# Altium schematic symbol library kmilo17pet-LT_PMIC_LT.SchLib: 2252 symbols (part 5 of 124)
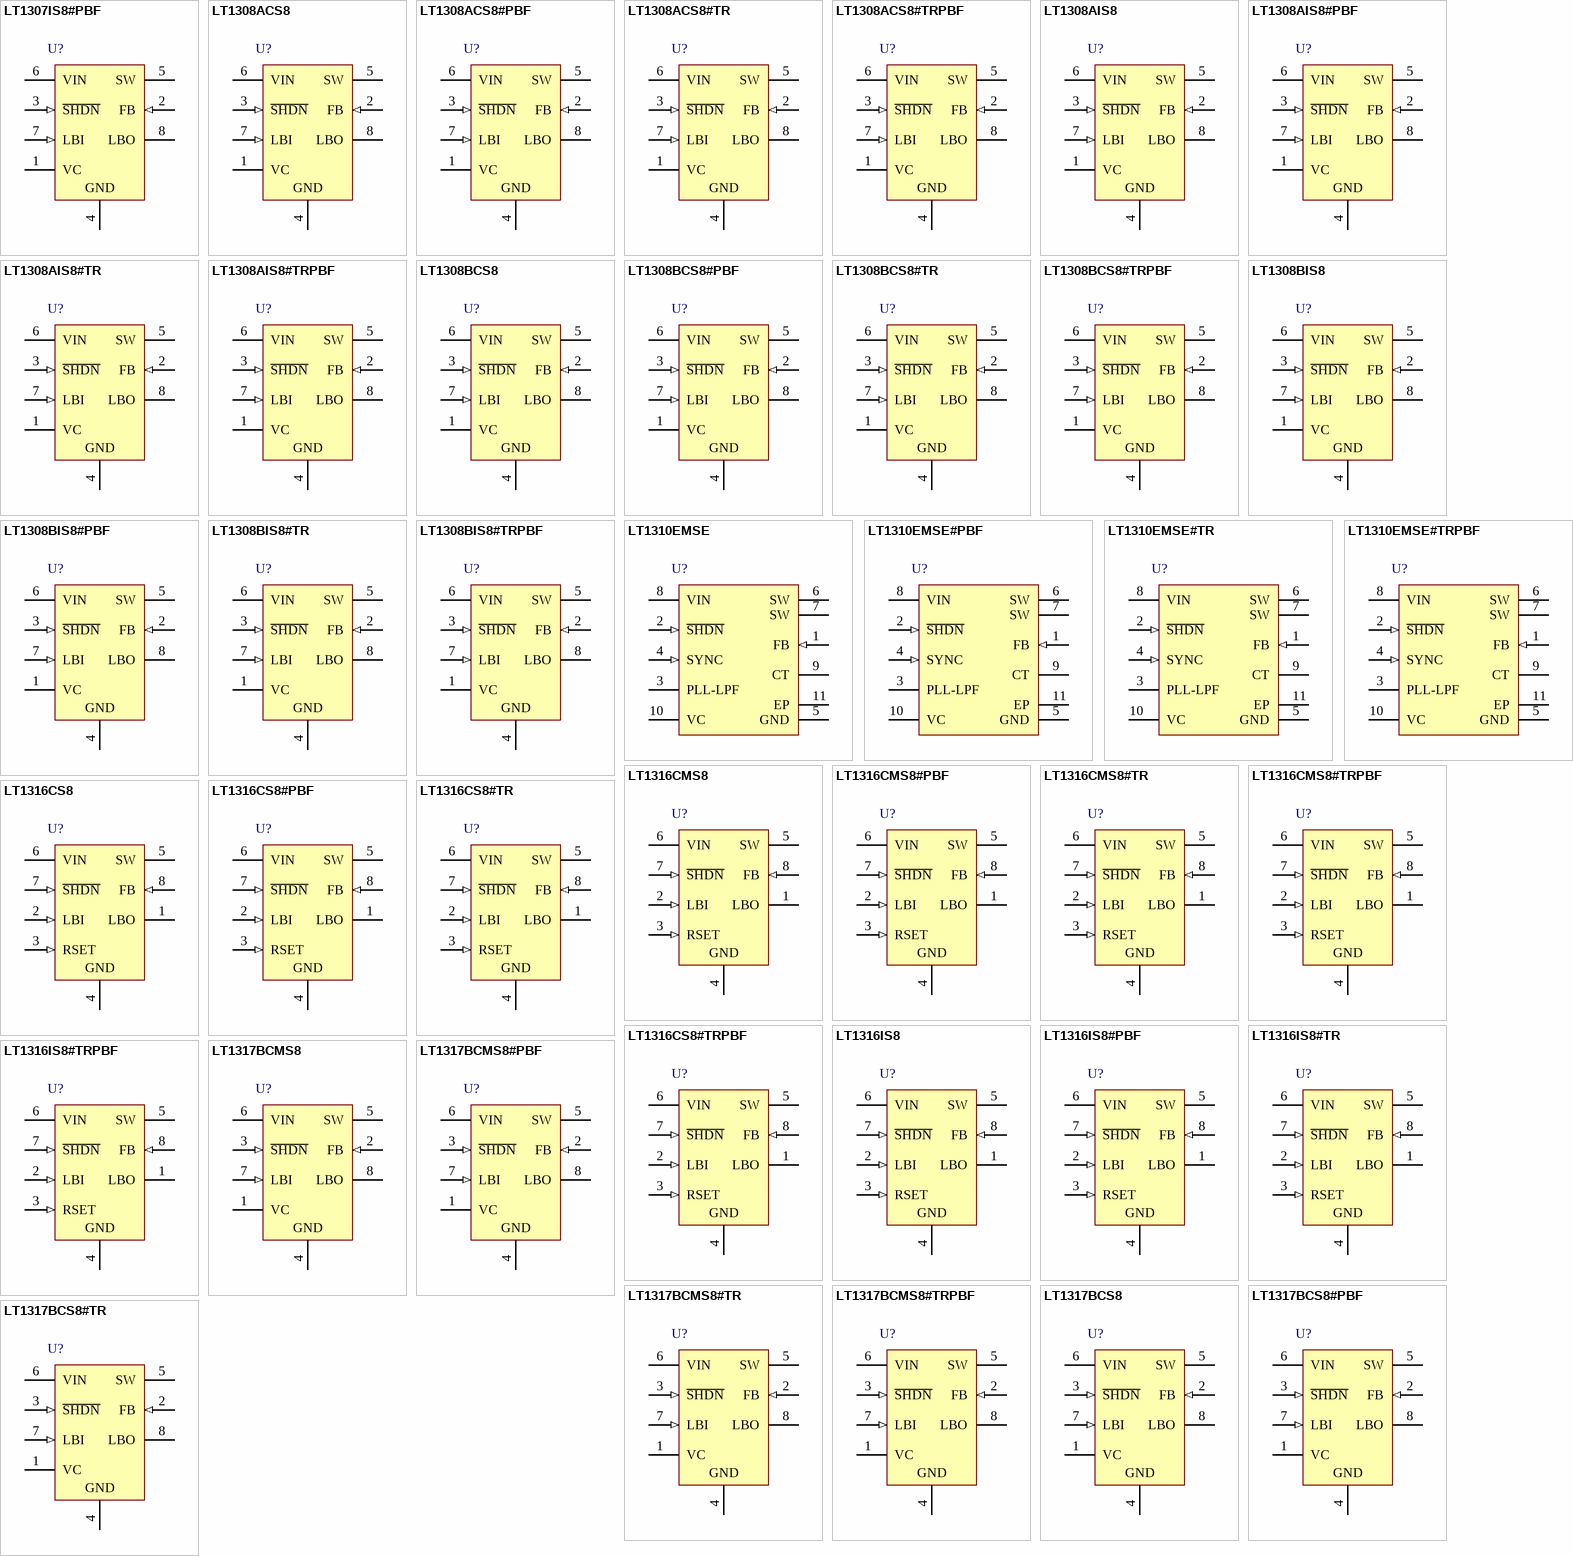
[diagram p75: symbols LT1307IS8#PBF to LT1317BCS8#TR]

## LT1308AIS8#TRPBF
designator U?
Single Cell High Current Micropower 600 kHz Boost DC/DC Converter, 8-pin SOIC (S8-8), -40 to 85 degC, Pb-Free, Tape and Reel; Manufacturer: Linear Technology; PartNumber: LT1308AIS8#TRPBF; Number of Outputs: 1; PackageReference: S8-8; PackageDescription: 8-Pin Plastic Small Outline (Narrow .150 Inch), Body 4.9 x 3.9 mm, Pitch 1.27 mm; Supplier 1: Digi-Key; Supplier Part Number 1: LT1308AIS8#TRPBF-ND; RoHS: TRUE
footprint LT-S8-8_N (SOIC, 8-Leads, Body 5x4mm, Pitch 1.27mm, IPC Medium Density)
footprint LT-S8-8_L (SOIC, 8-Leads, Body 5x4mm, Pitch 1.27mm, IPC High Density)
footprint LT-S8-8_M (SOIC, 8-Leads, Body 5x4mm, Pitch 1.27mm, IPC Low Density)
pins: 1 VC "Compensation Pin for Error Amplifier. Connect a series RC from this pin to ground. Typical values are 47kohm and 100pF. Minimize trace area at VC.", 2 FB (in) "Feedback Pin. Reference voltage is 1.22V. Connect resistive divider tap here. Minimize trace area at FB. Set VOUT according to: VOUT = 1.22V(1 + R1/R2).", 3 ~{SHDN} (in) "Shutdown. Ground this pin to turn off switcher. To enable, tie to 1V or more. S\H\D\N\ does not need to be at VIN to enable the device.", 4 GND (power) "Ground. Connect directly to local ground plane. Ground plane should enclose all components associated with the LT1308. PCB copper connected to these pins also functions as a heat sink. For the TSSOP package, connect all pins (See Datasheet)", 5 SW "Switch Pins. Connect inductor/diode here. Minimize trace area at these pins to keep EMI down. For the TSSOP package, connect all SW pins together at the package.", 6 VIN (power) "Supply Pins. Must have local bypass capacitor right at the pins, connected directly to ground. For the TSSOP package, connect both VIN pins together at the package.", 7 LBI (in) "Low-Battery Detector Input. 200mV reference. Voltage on LBI must stay between -100mV and 1V. Low-battery detector does not function with S\H\D\N\ pin grounded. Float LBI pin if not used.", 8 LBO (hiz) "Low-Battery Detector Output. Open collector, can sink 50uA. A 220kohm pull-up is recommended. LBO is high impedance when S\H\D\N\ is grounded"

## LT1308BCS8
designator U?
Single Cell High Current Micropower 600 kHz Boost DC/DC Converter, 8-pin SOIC (S8-8), 0 to 70 degC; Manufacturer: Linear Technology; PartNumber: LT1308BCS8; Number of Outputs: 1; PackageReference: S8-8; PackageDescription: 8-Pin Plastic Small Outline (Narrow .150 Inch), Body 4.9 x 3.9 mm, Pitch 1.27 mm; Supplier 1: Digi-Key; Supplier Part Number 1: LT1308BCS8-ND; RoHS: FALSE
footprint LT-S8-8_N (SOIC, 8-Leads, Body 5x4mm, Pitch 1.27mm, IPC Medium Density)
footprint LT-S8-8_L (SOIC, 8-Leads, Body 5x4mm, Pitch 1.27mm, IPC High Density)
footprint LT-S8-8_M (SOIC, 8-Leads, Body 5x4mm, Pitch 1.27mm, IPC Low Density)
pins: 1 VC "Compensation Pin for Error Amplifier. Connect a series RC from this pin to ground. Typical values are 47kohm and 100pF. Minimize trace area at VC.", 2 FB (in) "Feedback Pin. Reference voltage is 1.22V. Connect resistive divider tap here. Minimize trace area at FB. Set VOUT according to: VOUT = 1.22V(1 + R1/R2).", 3 ~{SHDN} (in) "Shutdown. Ground this pin to turn off switcher. To enable, tie to 1V or more. S\H\D\N\ does not need to be at VIN to enable the device.", 4 GND (power) "Ground. Connect directly to local ground plane. Ground plane should enclose all components associated with the LT1308. PCB copper connected to these pins also functions as a heat sink. For the TSSOP package, connect all pins (See Datasheet)", 5 SW "Switch Pins. Connect inductor/diode here. Minimize trace area at these pins to keep EMI down. For the TSSOP package, connect all SW pins together at the package.", 6 VIN (power) "Supply Pins. Must have local bypass capacitor right at the pins, connected directly to ground. For the TSSOP package, connect both VIN pins together at the package.", 7 LBI (in) "Low-Battery Detector Input. 200mV reference. Voltage on LBI must stay between -100mV and 1V. Low-battery detector does not function with S\H\D\N\ pin grounded. Float LBI pin if not used.", 8 LBO (hiz) "Low-Battery Detector Output. Open collector, can sink 50uA. A 220kohm pull-up is recommended. LBO is high impedance when S\H\D\N\ is grounded"

## LT1308BCS8#PBF
designator U?
Single Cell High Current Micropower 600 kHz Boost DC/DC Converter, 8-pin SOIC (S8-8), 0 to 70 degC, Pb-Free; Manufacturer: Linear Technology; PartNumber: LT1308BCS8#PBF; Number of Outputs: 1; PackageReference: S8-8; PackageDescription: 8-Pin Plastic Small Outline (Narrow .150 Inch), Body 4.9 x 3.9 mm, Pitch 1.27 mm; Supplier 1: Digi-Key; Supplier Part Number 1: LT1308BCS8#PBF-ND; RoHS: TRUE
footprint LT-S8-8_N (SOIC, 8-Leads, Body 5x4mm, Pitch 1.27mm, IPC Medium Density)
footprint LT-S8-8_L (SOIC, 8-Leads, Body 5x4mm, Pitch 1.27mm, IPC High Density)
footprint LT-S8-8_M (SOIC, 8-Leads, Body 5x4mm, Pitch 1.27mm, IPC Low Density)
pins: 1 VC "Compensation Pin for Error Amplifier. Connect a series RC from this pin to ground. Typical values are 47kohm and 100pF. Minimize trace area at VC.", 2 FB (in) "Feedback Pin. Reference voltage is 1.22V. Connect resistive divider tap here. Minimize trace area at FB. Set VOUT according to: VOUT = 1.22V(1 + R1/R2).", 3 ~{SHDN} (in) "Shutdown. Ground this pin to turn off switcher. To enable, tie to 1V or more. S\H\D\N\ does not need to be at VIN to enable the device.", 4 GND (power) "Ground. Connect directly to local ground plane. Ground plane should enclose all components associated with the LT1308. PCB copper connected to these pins also functions as a heat sink. For the TSSOP package, connect all pins (See Datasheet)", 5 SW "Switch Pins. Connect inductor/diode here. Minimize trace area at these pins to keep EMI down. For the TSSOP package, connect all SW pins together at the package.", 6 VIN (power) "Supply Pins. Must have local bypass capacitor right at the pins, connected directly to ground. For the TSSOP package, connect both VIN pins together at the package.", 7 LBI (in) "Low-Battery Detector Input. 200mV reference. Voltage on LBI must stay between -100mV and 1V. Low-battery detector does not function with S\H\D\N\ pin grounded. Float LBI pin if not used.", 8 LBO (hiz) "Low-Battery Detector Output. Open collector, can sink 50uA. A 220kohm pull-up is recommended. LBO is high impedance when S\H\D\N\ is grounded"

## LT1308BCS8#TR
designator U?
Single Cell High Current Micropower 600 kHz Boost DC/DC Converter, 8-pin SOIC (S8-8), 0 to 70 degC, Tape and Reel; Manufacturer: Linear Technology; PartNumber: LT1308BCS8#TR; Number of Outputs: 1; PackageReference: S8-8; PackageDescription: 8-Pin Plastic Small Outline (Narrow .150 Inch), Body 4.9 x 3.9 mm, Pitch 1.27 mm; RoHS: FALSE
footprint LT-S8-8_N (SOIC, 8-Leads, Body 5x4mm, Pitch 1.27mm, IPC Medium Density)
footprint LT-S8-8_L (SOIC, 8-Leads, Body 5x4mm, Pitch 1.27mm, IPC High Density)
footprint LT-S8-8_M (SOIC, 8-Leads, Body 5x4mm, Pitch 1.27mm, IPC Low Density)
pins: 1 VC "Compensation Pin for Error Amplifier. Connect a series RC from this pin to ground. Typical values are 47kohm and 100pF. Minimize trace area at VC.", 2 FB (in) "Feedback Pin. Reference voltage is 1.22V. Connect resistive divider tap here. Minimize trace area at FB. Set VOUT according to: VOUT = 1.22V(1 + R1/R2).", 3 ~{SHDN} (in) "Shutdown. Ground this pin to turn off switcher. To enable, tie to 1V or more. S\H\D\N\ does not need to be at VIN to enable the device.", 4 GND (power) "Ground. Connect directly to local ground plane. Ground plane should enclose all components associated with the LT1308. PCB copper connected to these pins also functions as a heat sink. For the TSSOP package, connect all pins (See Datasheet)", 5 SW "Switch Pins. Connect inductor/diode here. Minimize trace area at these pins to keep EMI down. For the TSSOP package, connect all SW pins together at the package.", 6 VIN (power) "Supply Pins. Must have local bypass capacitor right at the pins, connected directly to ground. For the TSSOP package, connect both VIN pins together at the package.", 7 LBI (in) "Low-Battery Detector Input. 200mV reference. Voltage on LBI must stay between -100mV and 1V. Low-battery detector does not function with S\H\D\N\ pin grounded. Float LBI pin if not used.", 8 LBO (hiz) "Low-Battery Detector Output. Open collector, can sink 50uA. A 220kohm pull-up is recommended. LBO is high impedance when S\H\D\N\ is grounded"

## LT1308BCS8#TRPBF
designator U?
Single Cell High Current Micropower 600 kHz Boost DC/DC Converter, 8-pin SOIC (S8-8), 0 to 70 degC, Pb-Free, Tape and Reel; Manufacturer: Linear Technology; PartNumber: LT1308BCS8#TRPBF; Number of Outputs: 1; PackageReference: S8-8; PackageDescription: 8-Pin Plastic Small Outline (Narrow .150 Inch), Body 4.9 x 3.9 mm, Pitch 1.27 mm; Supplier 1: Digi-Key; Supplier Part Number 1: LT1308BCS8#TRPBF-ND; RoHS: TRUE
footprint LT-S8-8_N (SOIC, 8-Leads, Body 5x4mm, Pitch 1.27mm, IPC Medium Density)
footprint LT-S8-8_L (SOIC, 8-Leads, Body 5x4mm, Pitch 1.27mm, IPC High Density)
footprint LT-S8-8_M (SOIC, 8-Leads, Body 5x4mm, Pitch 1.27mm, IPC Low Density)
pins: 1 VC "Compensation Pin for Error Amplifier. Connect a series RC from this pin to ground. Typical values are 47kohm and 100pF. Minimize trace area at VC.", 2 FB (in) "Feedback Pin. Reference voltage is 1.22V. Connect resistive divider tap here. Minimize trace area at FB. Set VOUT according to: VOUT = 1.22V(1 + R1/R2).", 3 ~{SHDN} (in) "Shutdown. Ground this pin to turn off switcher. To enable, tie to 1V or more. S\H\D\N\ does not need to be at VIN to enable the device.", 4 GND (power) "Ground. Connect directly to local ground plane. Ground plane should enclose all components associated with the LT1308. PCB copper connected to these pins also functions as a heat sink. For the TSSOP package, connect all pins (See Datasheet)", 5 SW "Switch Pins. Connect inductor/diode here. Minimize trace area at these pins to keep EMI down. For the TSSOP package, connect all SW pins together at the package.", 6 VIN (power) "Supply Pins. Must have local bypass capacitor right at the pins, connected directly to ground. For the TSSOP package, connect both VIN pins together at the package.", 7 LBI (in) "Low-Battery Detector Input. 200mV reference. Voltage on LBI must stay between -100mV and 1V. Low-battery detector does not function with S\H\D\N\ pin grounded. Float LBI pin if not used.", 8 LBO (hiz) "Low-Battery Detector Output. Open collector, can sink 50uA. A 220kohm pull-up is recommended. LBO is high impedance when S\H\D\N\ is grounded"

## LT1308BIS8
designator U?
Single Cell High Current Micropower 600 kHz Boost DC/DC Converter, 8-pin SOIC (S8-8), -40 to 85 degC; Manufacturer: Linear Technology; PartNumber: LT1308BIS8; Number of Outputs: 1; PackageReference: S8-8; PackageDescription: 8-Pin Plastic Small Outline (Narrow .150 Inch), Body 4.9 x 3.9 mm, Pitch 1.27 mm; Supplier 1: Digi-Key; Supplier Part Number 1: LT1308BIS8-ND; RoHS: FALSE
footprint LT-S8-8_N (SOIC, 8-Leads, Body 5x4mm, Pitch 1.27mm, IPC Medium Density)
footprint LT-S8-8_L (SOIC, 8-Leads, Body 5x4mm, Pitch 1.27mm, IPC High Density)
footprint LT-S8-8_M (SOIC, 8-Leads, Body 5x4mm, Pitch 1.27mm, IPC Low Density)
pins: 1 VC "Compensation Pin for Error Amplifier. Connect a series RC from this pin to ground. Typical values are 47kohm and 100pF. Minimize trace area at VC.", 2 FB (in) "Feedback Pin. Reference voltage is 1.22V. Connect resistive divider tap here. Minimize trace area at FB. Set VOUT according to: VOUT = 1.22V(1 + R1/R2).", 3 ~{SHDN} (in) "Shutdown. Ground this pin to turn off switcher. To enable, tie to 1V or more. S\H\D\N\ does not need to be at VIN to enable the device.", 4 GND (power) "Ground. Connect directly to local ground plane. Ground plane should enclose all components associated with the LT1308. PCB copper connected to these pins also functions as a heat sink. For the TSSOP package, connect all pins (See Datasheet)", 5 SW "Switch Pins. Connect inductor/diode here. Minimize trace area at these pins to keep EMI down. For the TSSOP package, connect all SW pins together at the package.", 6 VIN (power) "Supply Pins. Must have local bypass capacitor right at the pins, connected directly to ground. For the TSSOP package, connect both VIN pins together at the package.", 7 LBI (in) "Low-Battery Detector Input. 200mV reference. Voltage on LBI must stay between -100mV and 1V. Low-battery detector does not function with S\H\D\N\ pin grounded. Float LBI pin if not used.", 8 LBO (hiz) "Low-Battery Detector Output. Open collector, can sink 50uA. A 220kohm pull-up is recommended. LBO is high impedance when S\H\D\N\ is grounded"

## LT1308BIS8#PBF
designator U?
Single Cell High Current Micropower 600 kHz Boost DC/DC Converter, 8-pin SOIC (S8-8), -40 to 85 degC, Pb-Free; Manufacturer: Linear Technology; PartNumber: LT1308BIS8#PBF; Number of Outputs: 1; PackageReference: S8-8; PackageDescription: 8-Pin Plastic Small Outline (Narrow .150 Inch), Body 4.9 x 3.9 mm, Pitch 1.27 mm; Supplier 1: Digi-Key; Supplier Part Number 1: LT1308BIS8#PBF-ND; RoHS: TRUE
footprint LT-S8-8_N (SOIC, 8-Leads, Body 5x4mm, Pitch 1.27mm, IPC Medium Density)
footprint LT-S8-8_L (SOIC, 8-Leads, Body 5x4mm, Pitch 1.27mm, IPC High Density)
footprint LT-S8-8_M (SOIC, 8-Leads, Body 5x4mm, Pitch 1.27mm, IPC Low Density)
pins: 1 VC "Compensation Pin for Error Amplifier. Connect a series RC from this pin to ground. Typical values are 47kohm and 100pF. Minimize trace area at VC.", 2 FB (in) "Feedback Pin. Reference voltage is 1.22V. Connect resistive divider tap here. Minimize trace area at FB. Set VOUT according to: VOUT = 1.22V(1 + R1/R2).", 3 ~{SHDN} (in) "Shutdown. Ground this pin to turn off switcher. To enable, tie to 1V or more. S\H\D\N\ does not need to be at VIN to enable the device.", 4 GND (power) "Ground. Connect directly to local ground plane. Ground plane should enclose all components associated with the LT1308. PCB copper connected to these pins also functions as a heat sink. For the TSSOP package, connect all pins (See Datasheet)", 5 SW "Switch Pins. Connect inductor/diode here. Minimize trace area at these pins to keep EMI down. For the TSSOP package, connect all SW pins together at the package.", 6 VIN (power) "Supply Pins. Must have local bypass capacitor right at the pins, connected directly to ground. For the TSSOP package, connect both VIN pins together at the package.", 7 LBI (in) "Low-Battery Detector Input. 200mV reference. Voltage on LBI must stay between -100mV and 1V. Low-battery detector does not function with S\H\D\N\ pin grounded. Float LBI pin if not used.", 8 LBO (hiz) "Low-Battery Detector Output. Open collector, can sink 50uA. A 220kohm pull-up is recommended. LBO is high impedance when S\H\D\N\ is grounded"

## LT1308BIS8#TR
designator U?
Single Cell High Current Micropower 600 kHz Boost DC/DC Converter, 8-pin SOIC (S8-8), -40 to 85 degC, Tape and Reel; Manufacturer: Linear Technology; PartNumber: LT1308BIS8#TR; Number of Outputs: 1; PackageReference: S8-8; PackageDescription: 8-Pin Plastic Small Outline (Narrow .150 Inch), Body 4.9 x 3.9 mm, Pitch 1.27 mm; Supplier 1: Digi-Key; Supplier Part Number 1: LT1308BIS8#TR-ND; RoHS: FALSE
footprint LT-S8-8_N (SOIC, 8-Leads, Body 5x4mm, Pitch 1.27mm, IPC Medium Density)
footprint LT-S8-8_L (SOIC, 8-Leads, Body 5x4mm, Pitch 1.27mm, IPC High Density)
footprint LT-S8-8_M (SOIC, 8-Leads, Body 5x4mm, Pitch 1.27mm, IPC Low Density)
pins: 1 VC "Compensation Pin for Error Amplifier. Connect a series RC from this pin to ground. Typical values are 47kohm and 100pF. Minimize trace area at VC.", 2 FB (in) "Feedback Pin. Reference voltage is 1.22V. Connect resistive divider tap here. Minimize trace area at FB. Set VOUT according to: VOUT = 1.22V(1 + R1/R2).", 3 ~{SHDN} (in) "Shutdown. Ground this pin to turn off switcher. To enable, tie to 1V or more. S\H\D\N\ does not need to be at VIN to enable the device.", 4 GND (power) "Ground. Connect directly to local ground plane. Ground plane should enclose all components associated with the LT1308. PCB copper connected to these pins also functions as a heat sink. For the TSSOP package, connect all pins (See Datasheet)", 5 SW "Switch Pins. Connect inductor/diode here. Minimize trace area at these pins to keep EMI down. For the TSSOP package, connect all SW pins together at the package.", 6 VIN (power) "Supply Pins. Must have local bypass capacitor right at the pins, connected directly to ground. For the TSSOP package, connect both VIN pins together at the package.", 7 LBI (in) "Low-Battery Detector Input. 200mV reference. Voltage on LBI must stay between -100mV and 1V. Low-battery detector does not function with S\H\D\N\ pin grounded. Float LBI pin if not used.", 8 LBO (hiz) "Low-Battery Detector Output. Open collector, can sink 50uA. A 220kohm pull-up is recommended. LBO is high impedance when S\H\D\N\ is grounded"

## LT1308BIS8#TRPBF
designator U?
Single Cell High Current Micropower 600 kHz Boost DC/DC Converter, 8-pin SOIC (S8-8), -40 to 85 degC, Pb-Free, Tape and Reel; Manufacturer: Linear Technology; PartNumber: LT1308BIS8#TRPBF; Number of Outputs: 1; PackageReference: S8-8; PackageDescription: 8-Pin Plastic Small Outline (Narrow .150 Inch), Body 4.9 x 3.9 mm, Pitch 1.27 mm; Supplier 1: Digi-Key; Supplier Part Number 1: LT1308BIS8#TRPBF-ND; RoHS: TRUE
footprint LT-S8-8_N (SOIC, 8-Leads, Body 5x4mm, Pitch 1.27mm, IPC Medium Density)
footprint LT-S8-8_L (SOIC, 8-Leads, Body 5x4mm, Pitch 1.27mm, IPC High Density)
footprint LT-S8-8_M (SOIC, 8-Leads, Body 5x4mm, Pitch 1.27mm, IPC Low Density)
pins: 1 VC "Compensation Pin for Error Amplifier. Connect a series RC from this pin to ground. Typical values are 47kohm and 100pF. Minimize trace area at VC.", 2 FB (in) "Feedback Pin. Reference voltage is 1.22V. Connect resistive divider tap here. Minimize trace area at FB. Set VOUT according to: VOUT = 1.22V(1 + R1/R2).", 3 ~{SHDN} (in) "Shutdown. Ground this pin to turn off switcher. To enable, tie to 1V or more. S\H\D\N\ does not need to be at VIN to enable the device.", 4 GND (power) "Ground. Connect directly to local ground plane. Ground plane should enclose all components associated with the LT1308. PCB copper connected to these pins also functions as a heat sink. For the TSSOP package, connect all pins (See Datasheet)", 5 SW "Switch Pins. Connect inductor/diode here. Minimize trace area at these pins to keep EMI down. For the TSSOP package, connect all SW pins together at the package.", 6 VIN (power) "Supply Pins. Must have local bypass capacitor right at the pins, connected directly to ground. For the TSSOP package, connect both VIN pins together at the package.", 7 LBI (in) "Low-Battery Detector Input. 200mV reference. Voltage on LBI must stay between -100mV and 1V. Low-battery detector does not function with S\H\D\N\ pin grounded. Float LBI pin if not used.", 8 LBO (hiz) "Low-Battery Detector Output. Open collector, can sink 50uA. A 220kohm pull-up is recommended. LBO is high impedance when S\H\D\N\ is grounded"

## LT1310EMSE
designator U?
1.5 A Boost DC/DC Converter with Phase-Locked Loop, 10-pin SOP (MSE-10-EDP), -40 to 85 degC; Manufacturer: Linear Technology; PartNumber: LT1310EMSE; Number of Outputs: 1; PackageReference: MSE-10; PackageDescription: 10-Pin Plastic MSOP, Exposed Die Pad, Body 3 x 3 mm, Pitch 0.5 mm; Supplier 1: Digi-Key; Supplier Part Number 1: LT1310EMSE-ND; RoHS: FALSE
footprint LT-MSE-10-EDP-2060x1830TP_N (SOP, 10-Leads, Body 3.1x3.1mm, Pitch 0.5mm, Thermal Pad 2.17x1.94mm, IPC Medium Density)
footprint LT-MSE-10-EDP-2060x1830TP_L (SOP, 10-Leads, Body 3.1x3.1mm, Pitch 0.5mm, Thermal Pad 2.17x1.94mm, IPC High Density)
footprint LT-MSE-10-EDP-2060x1830TP_M (SOP, 10-Leads, Body 3.1x3.1mm, Pitch 0.5mm, Thermal Pad 2.17x1.94mm, IPC Low Density)
pins: 1 FB (in) "Feedback Pin for Error Amplifier. Connect the resistor divider here to set output voltage", 2 ~{SHDN} (in) "Shutdown Pin. For active mode, tie this pin to a voltage between 2.4V and 18V. To disable the part and go into low current mode, pull this pin below 0.4V.", 3 PLL-LPF "Phase Locked-Loop Filter Pin. This is the output of the phase detector and also the input to the voltage controlled oscillator (VCO). Connect an RC filter here. Typically, R = 3k and C = 1500pF. The voltage range at the (See Datasheet)", 4 SYNC (in) "Frequency Synchronization Pin. Inject the external synchronizing signal here. The phase detector is edge triggered and when locked the rising edge of the sync signal will be aligned with the turn-on of the power transistor. (See Datasheet)", 5 GND (power) "Ground. Tie both Pin 5 and the exposed pad directly to local ground plane. The ground metal to the exposed pad should be wide for better heat dissipation. Multiple vias (local ground plane ground backplane) placed close to (See Datasheet)", 6 SW (power) "Switch Pin. Must tie Pin 6 to Pin 7. Connect inductor/diode here. Minimize trace area at this pin to keep EMI down.", 7 SW (power) "Switch Pin. Must tie Pin 6 to Pin 7. Connect inductor/diode here. Minimize trace area at this pin to keep EMI down.", 8 VIN (power) "Supply Pin. Must be bypassed as close as possible to the pin.", 9 CT "Timing Capacitor Pin for VCO. Place the timing capacitor from this pin to ground to set the frequency range for the oscillator. Minimize trace at this pin to reduce stray capacitance.", 10 VC "Compensation Pin for Error Amplifier. Tie an RC network here to compensate the voltage feedback loop.", 11 EP (power) "Ground. Tie both Pin 5 and the exposed pad directly to local ground plane. The ground metal to the exposed pad should be wide for better heat dissipation. Multiple vias (local ground plane ground backplane) placed close to (See Datasheet)"

## LT1310EMSE#PBF
designator U?
1.5 A Boost DC/DC Converter with Phase-Locked Loop, 10-pin SOP (MSE-10-EDP), -40 to 85 degC, Pb-Free; Manufacturer: Linear Technology; PartNumber: LT1310EMSE#PBF; Number of Outputs: 1; PackageReference: MSE-10; PackageDescription: 10-Pin Plastic MSOP, Exposed Die Pad, Body 3 x 3 mm, Pitch 0.5 mm; Supplier 1: Digi-Key; Supplier Part Number 1: LT1310EMSE#PBF-ND; RoHS: TRUE
footprint LT-MSE-10-EDP-2060x1830TP_N (SOP, 10-Leads, Body 3.1x3.1mm, Pitch 0.5mm, Thermal Pad 2.17x1.94mm, IPC Medium Density)
footprint LT-MSE-10-EDP-2060x1830TP_L (SOP, 10-Leads, Body 3.1x3.1mm, Pitch 0.5mm, Thermal Pad 2.17x1.94mm, IPC High Density)
footprint LT-MSE-10-EDP-2060x1830TP_M (SOP, 10-Leads, Body 3.1x3.1mm, Pitch 0.5mm, Thermal Pad 2.17x1.94mm, IPC Low Density)
pins: 1 FB (in) "Feedback Pin for Error Amplifier. Connect the resistor divider here to set output voltage", 2 ~{SHDN} (in) "Shutdown Pin. For active mode, tie this pin to a voltage between 2.4V and 18V. To disable the part and go into low current mode, pull this pin below 0.4V.", 3 PLL-LPF "Phase Locked-Loop Filter Pin. This is the output of the phase detector and also the input to the voltage controlled oscillator (VCO). Connect an RC filter here. Typically, R = 3k and C = 1500pF. The voltage range at the (See Datasheet)", 4 SYNC (in) "Frequency Synchronization Pin. Inject the external synchronizing signal here. The phase detector is edge triggered and when locked the rising edge of the sync signal will be aligned with the turn-on of the power transistor. (See Datasheet)", 5 GND (power) "Ground. Tie both Pin 5 and the exposed pad directly to local ground plane. The ground metal to the exposed pad should be wide for better heat dissipation. Multiple vias (local ground plane ground backplane) placed close to (See Datasheet)", 6 SW (power) "Switch Pin. Must tie Pin 6 to Pin 7. Connect inductor/diode here. Minimize trace area at this pin to keep EMI down.", 7 SW (power) "Switch Pin. Must tie Pin 6 to Pin 7. Connect inductor/diode here. Minimize trace area at this pin to keep EMI down.", 8 VIN (power) "Supply Pin. Must be bypassed as close as possible to the pin.", 9 CT "Timing Capacitor Pin for VCO. Place the timing capacitor from this pin to ground to set the frequency range for the oscillator. Minimize trace at this pin to reduce stray capacitance.", 10 VC "Compensation Pin for Error Amplifier. Tie an RC network here to compensate the voltage feedback loop.", 11 EP (power) "Ground. Tie both Pin 5 and the exposed pad directly to local ground plane. The ground metal to the exposed pad should be wide for better heat dissipation. Multiple vias (local ground plane ground backplane) placed close to (See Datasheet)"

## LT1310EMSE#TR
designator U?
1.5 A Boost DC/DC Converter with Phase-Locked Loop, 10-pin SOP (MSE-10-EDP), -40 to 85 degC, Tape and Reel; Manufacturer: Linear Technology; PartNumber: LT1310EMSE#TR; Number of Outputs: 1; PackageReference: MSE-10; PackageDescription: 10-Pin Plastic MSOP, Exposed Die Pad, Body 3 x 3 mm, Pitch 0.5 mm; Supplier 1: Digi-Key; Supplier Part Number 1: LT1310EMSETR-ND; RoHS: FALSE
footprint LT-MSE-10-EDP-2060x1830TP_N (SOP, 10-Leads, Body 3.1x3.1mm, Pitch 0.5mm, Thermal Pad 2.17x1.94mm, IPC Medium Density)
footprint LT-MSE-10-EDP-2060x1830TP_L (SOP, 10-Leads, Body 3.1x3.1mm, Pitch 0.5mm, Thermal Pad 2.17x1.94mm, IPC High Density)
footprint LT-MSE-10-EDP-2060x1830TP_M (SOP, 10-Leads, Body 3.1x3.1mm, Pitch 0.5mm, Thermal Pad 2.17x1.94mm, IPC Low Density)
pins: 1 FB (in) "Feedback Pin for Error Amplifier. Connect the resistor divider here to set output voltage", 2 ~{SHDN} (in) "Shutdown Pin. For active mode, tie this pin to a voltage between 2.4V and 18V. To disable the part and go into low current mode, pull this pin below 0.4V.", 3 PLL-LPF "Phase Locked-Loop Filter Pin. This is the output of the phase detector and also the input to the voltage controlled oscillator (VCO). Connect an RC filter here. Typically, R = 3k and C = 1500pF. The voltage range at the (See Datasheet)", 4 SYNC (in) "Frequency Synchronization Pin. Inject the external synchronizing signal here. The phase detector is edge triggered and when locked the rising edge of the sync signal will be aligned with the turn-on of the power transistor. (See Datasheet)", 5 GND (power) "Ground. Tie both Pin 5 and the exposed pad directly to local ground plane. The ground metal to the exposed pad should be wide for better heat dissipation. Multiple vias (local ground plane ground backplane) placed close to (See Datasheet)", 6 SW (power) "Switch Pin. Must tie Pin 6 to Pin 7. Connect inductor/diode here. Minimize trace area at this pin to keep EMI down.", 7 SW (power) "Switch Pin. Must tie Pin 6 to Pin 7. Connect inductor/diode here. Minimize trace area at this pin to keep EMI down.", 8 VIN (power) "Supply Pin. Must be bypassed as close as possible to the pin.", 9 CT "Timing Capacitor Pin for VCO. Place the timing capacitor from this pin to ground to set the frequency range for the oscillator. Minimize trace at this pin to reduce stray capacitance.", 10 VC "Compensation Pin for Error Amplifier. Tie an RC network here to compensate the voltage feedback loop.", 11 EP (power) "Ground. Tie both Pin 5 and the exposed pad directly to local ground plane. The ground metal to the exposed pad should be wide for better heat dissipation. Multiple vias (local ground plane ground backplane) placed close to (See Datasheet)"

## LT1310EMSE#TRPBF
designator U?
1.5 A Boost DC/DC Converter with Phase-Locked Loop, 10-pin SOP (MSE-10-EDP), -40 to 85 degC, Pb-Free, Tape and Reel; Manufacturer: Linear Technology; PartNumber: LT1310EMSE#TRPBF; Number of Outputs: 1; PackageReference: MSE-10; PackageDescription: 10-Pin Plastic MSOP, Exposed Die Pad, Body 3 x 3 mm, Pitch 0.5 mm; Supplier 1: Digi-Key; Supplier Part Number 1: LT1310EMSE#TRPBF-ND; RoHS: TRUE
footprint LT-MSE-10-EDP-2060x1830TP_N (SOP, 10-Leads, Body 3.1x3.1mm, Pitch 0.5mm, Thermal Pad 2.17x1.94mm, IPC Medium Density)
footprint LT-MSE-10-EDP-2060x1830TP_L (SOP, 10-Leads, Body 3.1x3.1mm, Pitch 0.5mm, Thermal Pad 2.17x1.94mm, IPC High Density)
footprint LT-MSE-10-EDP-2060x1830TP_M (SOP, 10-Leads, Body 3.1x3.1mm, Pitch 0.5mm, Thermal Pad 2.17x1.94mm, IPC Low Density)
pins: 1 FB (in) "Feedback Pin for Error Amplifier. Connect the resistor divider here to set output voltage", 2 ~{SHDN} (in) "Shutdown Pin. For active mode, tie this pin to a voltage between 2.4V and 18V. To disable the part and go into low current mode, pull this pin below 0.4V.", 3 PLL-LPF "Phase Locked-Loop Filter Pin. This is the output of the phase detector and also the input to the voltage controlled oscillator (VCO). Connect an RC filter here. Typically, R = 3k and C = 1500pF. The voltage range at the (See Datasheet)", 4 SYNC (in) "Frequency Synchronization Pin. Inject the external synchronizing signal here. The phase detector is edge triggered and when locked the rising edge of the sync signal will be aligned with the turn-on of the power transistor. (See Datasheet)", 5 GND (power) "Ground. Tie both Pin 5 and the exposed pad directly to local ground plane. The ground metal to the exposed pad should be wide for better heat dissipation. Multiple vias (local ground plane ground backplane) placed close to (See Datasheet)", 6 SW (power) "Switch Pin. Must tie Pin 6 to Pin 7. Connect inductor/diode here. Minimize trace area at this pin to keep EMI down.", 7 SW (power) "Switch Pin. Must tie Pin 6 to Pin 7. Connect inductor/diode here. Minimize trace area at this pin to keep EMI down.", 8 VIN (power) "Supply Pin. Must be bypassed as close as possible to the pin.", 9 CT "Timing Capacitor Pin for VCO. Place the timing capacitor from this pin to ground to set the frequency range for the oscillator. Minimize trace at this pin to reduce stray capacitance.", 10 VC "Compensation Pin for Error Amplifier. Tie an RC network here to compensate the voltage feedback loop.", 11 EP (power) "Ground. Tie both Pin 5 and the exposed pad directly to local ground plane. The ground metal to the exposed pad should be wide for better heat dissipation. Multiple vias (local ground plane ground backplane) placed close to (See Datasheet)"

## LT1316CMS8
designator U?
Micropower DC/DC Converter with Programmable Peak Current Limit, 8-pin SOP (MS8-8), 0 to 70 degC; Manufacturer: Linear Technology; PartNumber: LT1316CMS8; Number of Outputs: 1; PackageReference: MS8; PackageDescription: 8-Pin Plastic MSOP, Body 3 x 3 mm, Pitch 0.65 mm; Supplier 1: Digi-Key; Supplier Part Number 1: LT1316CMS8-ND; RoHS: FALSE
footprint LT-MS8_N (SOP, 8-Leads, Body 3.1x3.1mm, Pitch 0.65mm, IPC Medium Density)
footprint LT-MS8_L (SOP, 8-Leads, Body 3.1x3.1mm, Pitch 0.65mm, IPC High Density)
footprint LT-MS8_M (SOP, 8-Leads, Body 3.1x3.1mm, Pitch 0.65mm, IPC Low Density)
pins: 1 LBO (oc) "Low-Battery Detector Output. Open collector can sink up to 500uA. Low-battery detector remains active in shutdown mode.", 2 LBI (in) "Low-Battery Detector Input. When voltage at this pin drops below 1.17V, LBO goes low.", 3 RSET (in) "A resistor between RSET and GND programs peak switch current. The resistor value should be between 3k and 150k. Do not float or short to ground. This is a high impedance node. Keep traces at this pin as short as possible. Do (See Datasheet)", 4 GND (power) "Ground. Connect directly to ground plane.", 5 SW (power) "Collector of NPN Power Transistor. Keep traces at this pin as short as possible.", 6 VIN (power) "Input Supply. Must be bypassed close to the pin.", 7 ~{SHDN} (in) "Shutdown. Ground this pin to place the part in shutdown mode (only the low-battery detector remains active). Tie to a voltage between 1.4V and 6V to enable the device. S\H\D\N\ pin is logic level and need only meet the logic (See Datasheet)", 8 FB (in) "Feedback Pin. Reference voltage is 1.23V. Connect resistive divider tap here. Minimize trace area at FB. Set VOUT according to: VOUT = 1.23V(1 + R1/R2)."

## LT1316CMS8#PBF
designator U?
Micropower DC/DC Converter with Programmable Peak Current Limit, 8-pin SOP (MS8-8), 0 to 70 degC, Pb-Free; Manufacturer: Linear Technology; PartNumber: LT1316CMS8#PBF; Number of Outputs: 1; PackageReference: MS8; PackageDescription: 8-Pin Plastic MSOP, Body 3 x 3 mm, Pitch 0.65 mm; Supplier 1: Digi-Key; Supplier Part Number 1: LT1316CMS8#PBF-ND; RoHS: TRUE
footprint LT-MS8_N (SOP, 8-Leads, Body 3.1x3.1mm, Pitch 0.65mm, IPC Medium Density)
footprint LT-MS8_L (SOP, 8-Leads, Body 3.1x3.1mm, Pitch 0.65mm, IPC High Density)
footprint LT-MS8_M (SOP, 8-Leads, Body 3.1x3.1mm, Pitch 0.65mm, IPC Low Density)
pins: 1 LBO (oc) "Low-Battery Detector Output. Open collector can sink up to 500uA. Low-battery detector remains active in shutdown mode.", 2 LBI (in) "Low-Battery Detector Input. When voltage at this pin drops below 1.17V, LBO goes low.", 3 RSET (in) "A resistor between RSET and GND programs peak switch current. The resistor value should be between 3k and 150k. Do not float or short to ground. This is a high impedance node. Keep traces at this pin as short as possible. Do (See Datasheet)", 4 GND (power) "Ground. Connect directly to ground plane.", 5 SW (power) "Collector of NPN Power Transistor. Keep traces at this pin as short as possible.", 6 VIN (power) "Input Supply. Must be bypassed close to the pin.", 7 ~{SHDN} (in) "Shutdown. Ground this pin to place the part in shutdown mode (only the low-battery detector remains active). Tie to a voltage between 1.4V and 6V to enable the device. S\H\D\N\ pin is logic level and need only meet the logic (See Datasheet)", 8 FB (in) "Feedback Pin. Reference voltage is 1.23V. Connect resistive divider tap here. Minimize trace area at FB. Set VOUT according to: VOUT = 1.23V(1 + R1/R2)."

## LT1316CMS8#TR
designator U?
Micropower DC/DC Converter with Programmable Peak Current Limit, 8-pin SOP (MS8-8), 0 to 70 degC, Tape and Reel; Manufacturer: Linear Technology; PartNumber: LT1316CMS8#TR; Number of Outputs: 1; PackageReference: MS8; PackageDescription: 8-Pin Plastic MSOP, Body 3 x 3 mm, Pitch 0.65 mm; Supplier 1: Digi-Key; Supplier Part Number 1: LT1316CMS8#TR-ND; RoHS: FALSE
footprint LT-MS8_N (SOP, 8-Leads, Body 3.1x3.1mm, Pitch 0.65mm, IPC Medium Density)
footprint LT-MS8_L (SOP, 8-Leads, Body 3.1x3.1mm, Pitch 0.65mm, IPC High Density)
footprint LT-MS8_M (SOP, 8-Leads, Body 3.1x3.1mm, Pitch 0.65mm, IPC Low Density)
pins: 1 LBO (oc) "Low-Battery Detector Output. Open collector can sink up to 500uA. Low-battery detector remains active in shutdown mode.", 2 LBI (in) "Low-Battery Detector Input. When voltage at this pin drops below 1.17V, LBO goes low.", 3 RSET (in) "A resistor between RSET and GND programs peak switch current. The resistor value should be between 3k and 150k. Do not float or short to ground. This is a high impedance node. Keep traces at this pin as short as possible. Do (See Datasheet)", 4 GND (power) "Ground. Connect directly to ground plane.", 5 SW (power) "Collector of NPN Power Transistor. Keep traces at this pin as short as possible.", 6 VIN (power) "Input Supply. Must be bypassed close to the pin.", 7 ~{SHDN} (in) "Shutdown. Ground this pin to place the part in shutdown mode (only the low-battery detector remains active). Tie to a voltage between 1.4V and 6V to enable the device. S\H\D\N\ pin is logic level and need only meet the logic (See Datasheet)", 8 FB (in) "Feedback Pin. Reference voltage is 1.23V. Connect resistive divider tap here. Minimize trace area at FB. Set VOUT according to: VOUT = 1.23V(1 + R1/R2)."

## LT1316CMS8#TRPBF
designator U?
Micropower DC/DC Converter with Programmable Peak Current Limit, 8-pin SOP (MS8-8), 0 to 70 degC, Pb-Free, Tape and Reel; Manufacturer: Linear Technology; PartNumber: LT1316CMS8#TRPBF; Number of Outputs: 1; PackageReference: MS8; PackageDescription: 8-Pin Plastic MSOP, Body 3 x 3 mm, Pitch 0.65 mm; Supplier 1: Digi-Key; Supplier Part Number 1: LT1316CMS8#TRPBF-ND; RoHS: TRUE
footprint LT-MS8_N (SOP, 8-Leads, Body 3.1x3.1mm, Pitch 0.65mm, IPC Medium Density)
footprint LT-MS8_L (SOP, 8-Leads, Body 3.1x3.1mm, Pitch 0.65mm, IPC High Density)
footprint LT-MS8_M (SOP, 8-Leads, Body 3.1x3.1mm, Pitch 0.65mm, IPC Low Density)
pins: 1 LBO (oc) "Low-Battery Detector Output. Open collector can sink up to 500uA. Low-battery detector remains active in shutdown mode.", 2 LBI (in) "Low-Battery Detector Input. When voltage at this pin drops below 1.17V, LBO goes low.", 3 RSET (in) "A resistor between RSET and GND programs peak switch current. The resistor value should be between 3k and 150k. Do not float or short to ground. This is a high impedance node. Keep traces at this pin as short as possible. Do (See Datasheet)", 4 GND (power) "Ground. Connect directly to ground plane.", 5 SW (power) "Collector of NPN Power Transistor. Keep traces at this pin as short as possible.", 6 VIN (power) "Input Supply. Must be bypassed close to the pin.", 7 ~{SHDN} (in) "Shutdown. Ground this pin to place the part in shutdown mode (only the low-battery detector remains active). Tie to a voltage between 1.4V and 6V to enable the device. S\H\D\N\ pin is logic level and need only meet the logic (See Datasheet)", 8 FB (in) "Feedback Pin. Reference voltage is 1.23V. Connect resistive divider tap here. Minimize trace area at FB. Set VOUT according to: VOUT = 1.23V(1 + R1/R2)."

## LT1316CS8
designator U?
Micropower DC/DC Converter with Programmable Peak Current Limit, 8-pin SOIC (S8-8), 0 to 70 degC; Manufacturer: Linear Technology; PartNumber: LT1316CS8; Number of Outputs: 1; PackageReference: S8-8; PackageDescription: 8-Pin Plastic Small Outline (Narrow .150 Inch), Body 4.9 x 3.9 mm, Pitch 1.27 mm; Supplier 1: Digi-Key; Supplier Part Number 1: LT1316CS8-ND; RoHS: FALSE
footprint LT-S8-8_N (SOIC, 8-Leads, Body 5x4mm, Pitch 1.27mm, IPC Medium Density)
footprint LT-S8-8_L (SOIC, 8-Leads, Body 5x4mm, Pitch 1.27mm, IPC High Density)
footprint LT-S8-8_M (SOIC, 8-Leads, Body 5x4mm, Pitch 1.27mm, IPC Low Density)
pins: 1 LBO (oc) "Low-Battery Detector Output. Open collector can sink up to 500uA. Low-battery detector remains active in shutdown mode.", 2 LBI (in) "Low-Battery Detector Input. When voltage at this pin drops below 1.17V, LBO goes low.", 3 RSET (in) "A resistor between RSET and GND programs peak switch current. The resistor value should be between 3k and 150k. Do not float or short to ground. This is a high impedance node. Keep traces at this pin as short as possible. Do (See Datasheet)", 4 GND (power) "Ground. Connect directly to ground plane.", 5 SW (power) "Collector of NPN Power Transistor. Keep traces at this pin as short as possible.", 6 VIN (power) "Input Supply. Must be bypassed close to the pin.", 7 ~{SHDN} (in) "Shutdown. Ground this pin to place the part in shutdown mode (only the low-battery detector remains active). Tie to a voltage between 1.4V and 6V to enable the device. S\H\D\N\ pin is logic level and need only meet the logic (See Datasheet)", 8 FB (in) "Feedback Pin. Reference voltage is 1.23V. Connect resistive divider tap here. Minimize trace area at FB. Set VOUT according to: VOUT = 1.23V(1 + R1/R2)."

## LT1316CS8#PBF
designator U?
Micropower DC/DC Converter with Programmable Peak Current Limit, 8-pin SOIC (S8-8), 0 to 70 degC, Pb-Free; Manufacturer: Linear Technology; PartNumber: LT1316CS8#PBF; Number of Outputs: 1; PackageReference: S8-8; PackageDescription: 8-Pin Plastic Small Outline (Narrow .150 Inch), Body 4.9 x 3.9 mm, Pitch 1.27 mm; Supplier 1: Digi-Key; Supplier Part Number 1: LT1316CS8#PBF-ND; RoHS: TRUE
footprint LT-S8-8_N (SOIC, 8-Leads, Body 5x4mm, Pitch 1.27mm, IPC Medium Density)
footprint LT-S8-8_L (SOIC, 8-Leads, Body 5x4mm, Pitch 1.27mm, IPC High Density)
footprint LT-S8-8_M (SOIC, 8-Leads, Body 5x4mm, Pitch 1.27mm, IPC Low Density)
pins: 1 LBO (oc) "Low-Battery Detector Output. Open collector can sink up to 500uA. Low-battery detector remains active in shutdown mode.", 2 LBI (in) "Low-Battery Detector Input. When voltage at this pin drops below 1.17V, LBO goes low.", 3 RSET (in) "A resistor between RSET and GND programs peak switch current. The resistor value should be between 3k and 150k. Do not float or short to ground. This is a high impedance node. Keep traces at this pin as short as possible. Do (See Datasheet)", 4 GND (power) "Ground. Connect directly to ground plane.", 5 SW (power) "Collector of NPN Power Transistor. Keep traces at this pin as short as possible.", 6 VIN (power) "Input Supply. Must be bypassed close to the pin.", 7 ~{SHDN} (in) "Shutdown. Ground this pin to place the part in shutdown mode (only the low-battery detector remains active). Tie to a voltage between 1.4V and 6V to enable the device. S\H\D\N\ pin is logic level and need only meet the logic (See Datasheet)", 8 FB (in) "Feedback Pin. Reference voltage is 1.23V. Connect resistive divider tap here. Minimize trace area at FB. Set VOUT according to: VOUT = 1.23V(1 + R1/R2)."

## LT1316CS8#TR
designator U?
Micropower DC/DC Converter with Programmable Peak Current Limit, 8-pin SOIC (S8-8), 0 to 70 degC, Tape and Reel; Manufacturer: Linear Technology; PartNumber: LT1316CS8#TR; Number of Outputs: 1; PackageReference: S8-8; PackageDescription: 8-Pin Plastic Small Outline (Narrow .150 Inch), Body 4.9 x 3.9 mm, Pitch 1.27 mm; Supplier 1: Digi-Key; Supplier Part Number 1: LT1316CS8#TR-ND; RoHS: FALSE
footprint LT-S8-8_N (SOIC, 8-Leads, Body 5x4mm, Pitch 1.27mm, IPC Medium Density)
footprint LT-S8-8_L (SOIC, 8-Leads, Body 5x4mm, Pitch 1.27mm, IPC High Density)
footprint LT-S8-8_M (SOIC, 8-Leads, Body 5x4mm, Pitch 1.27mm, IPC Low Density)
pins: 1 LBO (oc) "Low-Battery Detector Output. Open collector can sink up to 500uA. Low-battery detector remains active in shutdown mode.", 2 LBI (in) "Low-Battery Detector Input. When voltage at this pin drops below 1.17V, LBO goes low.", 3 RSET (in) "A resistor between RSET and GND programs peak switch current. The resistor value should be between 3k and 150k. Do not float or short to ground. This is a high impedance node. Keep traces at this pin as short as possible. Do (See Datasheet)", 4 GND (power) "Ground. Connect directly to ground plane.", 5 SW (power) "Collector of NPN Power Transistor. Keep traces at this pin as short as possible.", 6 VIN (power) "Input Supply. Must be bypassed close to the pin.", 7 ~{SHDN} (in) "Shutdown. Ground this pin to place the part in shutdown mode (only the low-battery detector remains active). Tie to a voltage between 1.4V and 6V to enable the device. S\H\D\N\ pin is logic level and need only meet the logic (See Datasheet)", 8 FB (in) "Feedback Pin. Reference voltage is 1.23V. Connect resistive divider tap here. Minimize trace area at FB. Set VOUT according to: VOUT = 1.23V(1 + R1/R2)."

## LT1316CS8#TRPBF
designator U?
Micropower DC/DC Converter with Programmable Peak Current Limit, 8-pin SOIC (S8-8), 0 to 70 degC, Pb-Free, Tape and Reel; Manufacturer: Linear Technology; PartNumber: LT1316CS8#TRPBF; Number of Outputs: 1; PackageReference: S8-8; PackageDescription: 8-Pin Plastic Small Outline (Narrow .150 Inch), Body 4.9 x 3.9 mm, Pitch 1.27 mm; Supplier 1: Digi-Key; Supplier Part Number 1: LT1316CS8#TRPBF-ND; RoHS: TRUE
footprint LT-S8-8_N (SOIC, 8-Leads, Body 5x4mm, Pitch 1.27mm, IPC Medium Density)
footprint LT-S8-8_L (SOIC, 8-Leads, Body 5x4mm, Pitch 1.27mm, IPC High Density)
footprint LT-S8-8_M (SOIC, 8-Leads, Body 5x4mm, Pitch 1.27mm, IPC Low Density)
pins: 1 LBO (oc) "Low-Battery Detector Output. Open collector can sink up to 500uA. Low-battery detector remains active in shutdown mode.", 2 LBI (in) "Low-Battery Detector Input. When voltage at this pin drops below 1.17V, LBO goes low.", 3 RSET (in) "A resistor between RSET and GND programs peak switch current. The resistor value should be between 3k and 150k. Do not float or short to ground. This is a high impedance node. Keep traces at this pin as short as possible. Do (See Datasheet)", 4 GND (power) "Ground. Connect directly to ground plane.", 5 SW (power) "Collector of NPN Power Transistor. Keep traces at this pin as short as possible.", 6 VIN (power) "Input Supply. Must be bypassed close to the pin.", 7 ~{SHDN} (in) "Shutdown. Ground this pin to place the part in shutdown mode (only the low-battery detector remains active). Tie to a voltage between 1.4V and 6V to enable the device. S\H\D\N\ pin is logic level and need only meet the logic (See Datasheet)", 8 FB (in) "Feedback Pin. Reference voltage is 1.23V. Connect resistive divider tap here. Minimize trace area at FB. Set VOUT according to: VOUT = 1.23V(1 + R1/R2)."

## LT1316IS8
designator U?
Micropower DC/DC Converter with Programmable Peak Current Limit, 8-pin SOIC (S8-8), -40 to 85 degC; Manufacturer: Linear Technology; PartNumber: LT1316IS8; Number of Outputs: 1; PackageReference: S8-8; PackageDescription: 8-Pin Plastic Small Outline (Narrow .150 Inch), Body 4.9 x 3.9 mm, Pitch 1.27 mm; Supplier 1: Digi-Key; Supplier Part Number 1: LT1316IS8-ND; RoHS: FALSE
footprint LT-S8-8_N (SOIC, 8-Leads, Body 5x4mm, Pitch 1.27mm, IPC Medium Density)
footprint LT-S8-8_L (SOIC, 8-Leads, Body 5x4mm, Pitch 1.27mm, IPC High Density)
footprint LT-S8-8_M (SOIC, 8-Leads, Body 5x4mm, Pitch 1.27mm, IPC Low Density)
pins: 1 LBO (oc) "Low-Battery Detector Output. Open collector can sink up to 500uA. Low-battery detector remains active in shutdown mode.", 2 LBI (in) "Low-Battery Detector Input. When voltage at this pin drops below 1.17V, LBO goes low.", 3 RSET (in) "A resistor between RSET and GND programs peak switch current. The resistor value should be between 3k and 150k. Do not float or short to ground. This is a high impedance node. Keep traces at this pin as short as possible. Do (See Datasheet)", 4 GND (power) "Ground. Connect directly to ground plane.", 5 SW (power) "Collector of NPN Power Transistor. Keep traces at this pin as short as possible.", 6 VIN (power) "Input Supply. Must be bypassed close to the pin.", 7 ~{SHDN} (in) "Shutdown. Ground this pin to place the part in shutdown mode (only the low-battery detector remains active). Tie to a voltage between 1.4V and 6V to enable the device. S\H\D\N\ pin is logic level and need only meet the logic (See Datasheet)", 8 FB (in) "Feedback Pin. Reference voltage is 1.23V. Connect resistive divider tap here. Minimize trace area at FB. Set VOUT according to: VOUT = 1.23V(1 + R1/R2)."

## LT1316IS8#PBF
designator U?
Micropower DC/DC Converter with Programmable Peak Current Limit, 8-pin SOIC (S8-8), -40 to 85 degC, Pb-Free; Manufacturer: Linear Technology; PartNumber: LT1316IS8#PBF; Number of Outputs: 1; PackageReference: S8-8; PackageDescription: 8-Pin Plastic Small Outline (Narrow .150 Inch), Body 4.9 x 3.9 mm, Pitch 1.27 mm; Supplier 1: Digi-Key; Supplier Part Number 1: LT1316IS8#PBF-ND; RoHS: TRUE
footprint LT-S8-8_N (SOIC, 8-Leads, Body 5x4mm, Pitch 1.27mm, IPC Medium Density)
footprint LT-S8-8_L (SOIC, 8-Leads, Body 5x4mm, Pitch 1.27mm, IPC High Density)
footprint LT-S8-8_M (SOIC, 8-Leads, Body 5x4mm, Pitch 1.27mm, IPC Low Density)
pins: 1 LBO (oc) "Low-Battery Detector Output. Open collector can sink up to 500uA. Low-battery detector remains active in shutdown mode.", 2 LBI (in) "Low-Battery Detector Input. When voltage at this pin drops below 1.17V, LBO goes low.", 3 RSET (in) "A resistor between RSET and GND programs peak switch current. The resistor value should be between 3k and 150k. Do not float or short to ground. This is a high impedance node. Keep traces at this pin as short as possible. Do (See Datasheet)", 4 GND (power) "Ground. Connect directly to ground plane.", 5 SW (power) "Collector of NPN Power Transistor. Keep traces at this pin as short as possible.", 6 VIN (power) "Input Supply. Must be bypassed close to the pin.", 7 ~{SHDN} (in) "Shutdown. Ground this pin to place the part in shutdown mode (only the low-battery detector remains active). Tie to a voltage between 1.4V and 6V to enable the device. S\H\D\N\ pin is logic level and need only meet the logic (See Datasheet)", 8 FB (in) "Feedback Pin. Reference voltage is 1.23V. Connect resistive divider tap here. Minimize trace area at FB. Set VOUT according to: VOUT = 1.23V(1 + R1/R2)."

## LT1316IS8#TR
designator U?
Micropower DC/DC Converter with Programmable Peak Current Limit, 8-pin SOIC (S8-8), -40 to 85 degC, Tape and Reel; Manufacturer: Linear Technology; PartNumber: LT1316IS8#TR; Number of Outputs: 1; PackageReference: S8-8; PackageDescription: 8-Pin Plastic Small Outline (Narrow .150 Inch), Body 4.9 x 3.9 mm, Pitch 1.27 mm; Supplier 1: Digi-Key; Supplier Part Number 1: LT1316IS8#TR-ND; RoHS: FALSE
footprint LT-S8-8_N (SOIC, 8-Leads, Body 5x4mm, Pitch 1.27mm, IPC Medium Density)
footprint LT-S8-8_L (SOIC, 8-Leads, Body 5x4mm, Pitch 1.27mm, IPC High Density)
footprint LT-S8-8_M (SOIC, 8-Leads, Body 5x4mm, Pitch 1.27mm, IPC Low Density)
pins: 1 LBO (oc) "Low-Battery Detector Output. Open collector can sink up to 500uA. Low-battery detector remains active in shutdown mode.", 2 LBI (in) "Low-Battery Detector Input. When voltage at this pin drops below 1.17V, LBO goes low.", 3 RSET (in) "A resistor between RSET and GND programs peak switch current. The resistor value should be between 3k and 150k. Do not float or short to ground. This is a high impedance node. Keep traces at this pin as short as possible. Do (See Datasheet)", 4 GND (power) "Ground. Connect directly to ground plane.", 5 SW (power) "Collector of NPN Power Transistor. Keep traces at this pin as short as possible.", 6 VIN (power) "Input Supply. Must be bypassed close to the pin.", 7 ~{SHDN} (in) "Shutdown. Ground this pin to place the part in shutdown mode (only the low-battery detector remains active). Tie to a voltage between 1.4V and 6V to enable the device. S\H\D\N\ pin is logic level and need only meet the logic (See Datasheet)", 8 FB (in) "Feedback Pin. Reference voltage is 1.23V. Connect resistive divider tap here. Minimize trace area at FB. Set VOUT according to: VOUT = 1.23V(1 + R1/R2)."